# Altium schematic symbol library ADR445ARZ.SchLib: 2 symbols
Pins are listed as number, name and electrical type; pins without a type are passive.

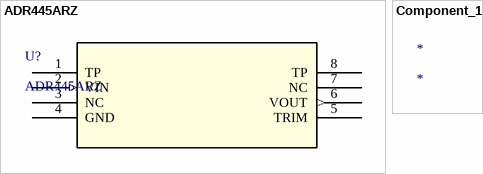
[diagram p0: symbols ADR445ARZ to Component_1]

## ADR445ARZ
designator U?
No Description Available; Mfr_Name: Analog Devices Inc; Copyright: Copyright (C) 2021 Ultra Librarian. All rights reserved.; Manufacturer_Part_Number: ADR445ARZ; RefDes: RefDes; Type: DEV
footprint R_8_ADI
pins: 1 TP, 2 VIN (in), 3 NC, 4 GND (power), 5 TRIM, 6 VOUT (out), 7 NC, 8 TP

## Component_1
designator *